# EAGLE library part 2420-07? (library con-wieson-2420)
2.0mm 2420-07 - 7 pin Source: http://www.jm.pl/karty/2420-XXXT1X-C.pdf
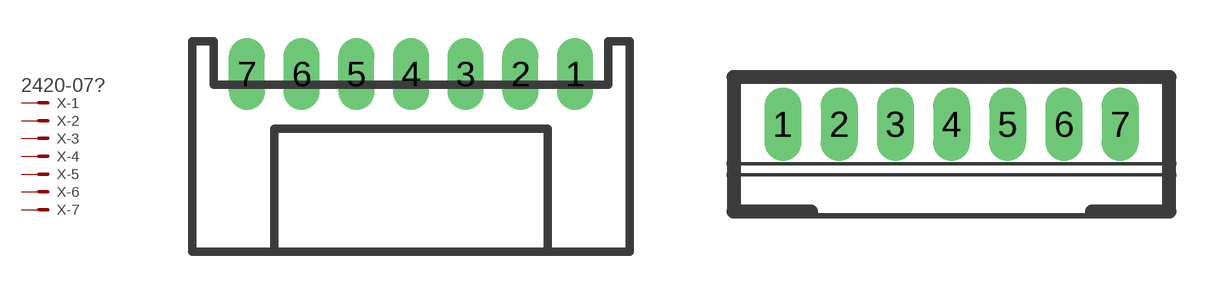
[diagram p10: symbol with the pads of 2420-07R; footprints 2420-07R, 2420-07S]

Designator prefix X; gates -1=MV -2=M -3=M -4=M -5=M -6=M -7=M

## 2420-07R  [2420-07R]
1  -1:>NAME$
2  -2:>NAME$
3  -3:>NAME$
4  -4:>NAME$
5  -5:>NAME$
6  -6:>NAME$
7  -7:>NAME$

## 2420-07S  [2420-07S]
Pads as for 2420-07R

## Footprint 2420-07R (pad centres in mm)
2.0mm right angle 2420-07 - 7 pin Source: http://www.jm.pl/karty/2420-XXXT1X-C.pdf
drill 0.8 long: 1 6,0; 2 4,0; 3 2,0; 4 0,0; 5 -2,0; 6 -4,0; 7 -6,0

## Footprint 2420-07S (pad centres in mm)
2.0mm straight 2420-07 - 7 pin Source: http://www.jm.pl/karty/2420-XXXT1X-C.pdf
drill 0.8 long: 1 -6,0; 2 -4,0; 3 -2,0; 4 0,0; 5 2,0; 6 4,0; 7 6,0